# EAGLE library part *4538 (library digital)
xx4538: Dual monostable multivibrator With Reset
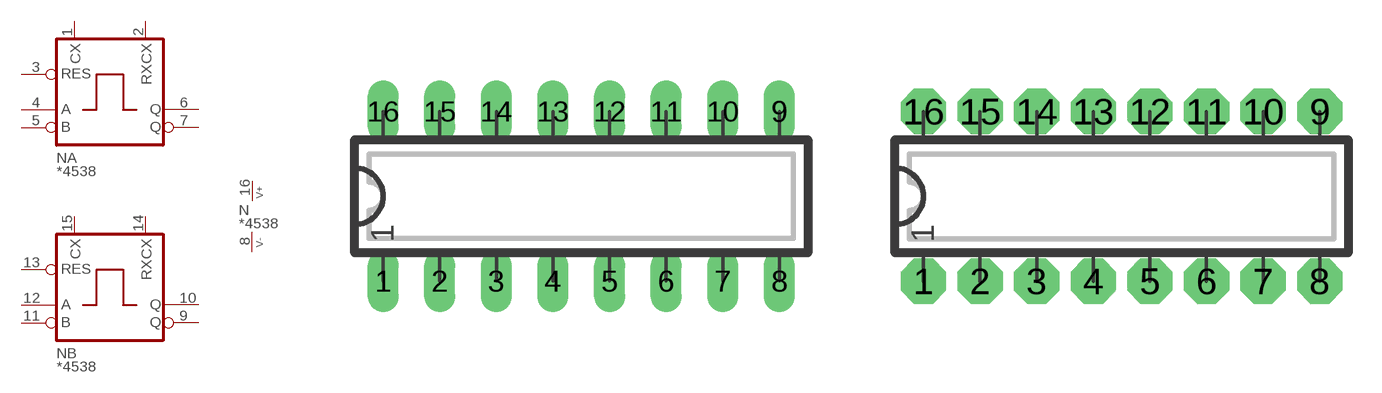
[diagram p38: symbol with the pads of DIP16L; footprints DIP16L, DIP16N]

Designator prefix N; gates A=MONO B=MONO P=V+-

## 4538  [DIP16L]
1  A:CX  pas
2  A:RXCX  pas
3  A:/RES  in
4  A:A  in
5  A:/B  in
6  A:Q  out
7  A:/Q  out
8  P:V-  pwr
9  B:/Q  out
10  B:Q  out
11  B:/B  in
12  B:A  in
13  B:/RES  in
14  B:RXCX  pas
15  B:CX  pas
16  P:V+  pwr

## 4538L  [DIP16L]
1  A:CX  pas
2  A:RXCX  pas
3  A:/RES  in
4  A:/B  in
5  A:A  in
6  A:Q  out
7  A:/Q  out
8  P:V-  pwr
9  B:/Q  out
10  B:Q  out
11  B:A  in
12  B:/B  in
13  B:/RES  in
14  B:RXCX  pas
15  B:CX  pas
16  P:V+  pwr

## 4538N  [DIP16N]
Pads as for DIP16L

## 4538R  [DIP16R]
Pads as for DIP16L

## 4538S  [SO16]
Pads as for DIP16L

## Footprint DIP16L (pad centres in mm)
DIP-16, long pads Standard IC package, 16 pins
drill 0.813 pad 1.397 long: 1 0,0; 2 2.54,0; 3 5.08,0; 4 7.62,0; 5 10.16,0; 6 12.7,0; 7 15.24,0; 8 17.78,0; 9 17.78,7.62; 10 15.24,7.62; 11 12.7,7.62; 12 10.16,7.62; 13 7.62,7.62; 14 5.08,7.62; 15 2.54,7.62; 16 0,7.62

## Footprint DIP16N (pad centres in mm)
DIP-16 Standard IC package, 16 pins
drill 0.813 pad 2.032 octagon: 1 0,0; 2 2.54,0; 3 5.08,0; 4 7.62,0; 5 10.16,0; 6 12.7,0; 7 15.24,0; 8 17.78,0; 9 17.78,7.62; 10 15.24,7.62; 11 12.7,7.62; 12 10.16,7.62; 13 7.62,7.62; 14 5.08,7.62; 15 2.54,7.62; 16 0,7.62

## Footprint DIP16R (pad centres in mm)
DIP-16, reduced pads Standard IC package, 16 pins
drill 0.813 pad 1.397 square: 1 0,0; 2 2.54,0; 3 5.08,0; 4 7.62,0; 5 10.16,0; 6 12.7,0; 7 15.24,0; 8 17.78,0; 9 17.78,7.62; 10 15.24,7.62; 11 12.7,7.62; 12 10.16,7.62; 13 7.62,7.62; 14 5.08,7.62; 15 2.54,7.62; 16 0,7.62

## Footprint SO16 (pad centres in mm)
SO-16, SMD SOIC IC package, 16 pins
smd 0.635 x 1.778: 1 -4.445,-2.857; 2 -3.175,-2.857; 3 -1.905,-2.857; 4 -0.635,-2.857; 5 0.635,-2.857; 6 1.905,-2.857; 7 3.175,-2.857; 8 4.445,-2.857; 9 4.445,2.857; 10 3.175,2.857; 11 1.905,2.857; 12 0.635,2.857; 13 -0.635,2.857; 14 -1.905,2.857; 15 -3.175,2.857; 16 -4.445,2.857